# Altium schematic symbol library Schlib1.SchLib: 10 symbols
Pins are listed as number, name and electrical type; pins without a type are passive.

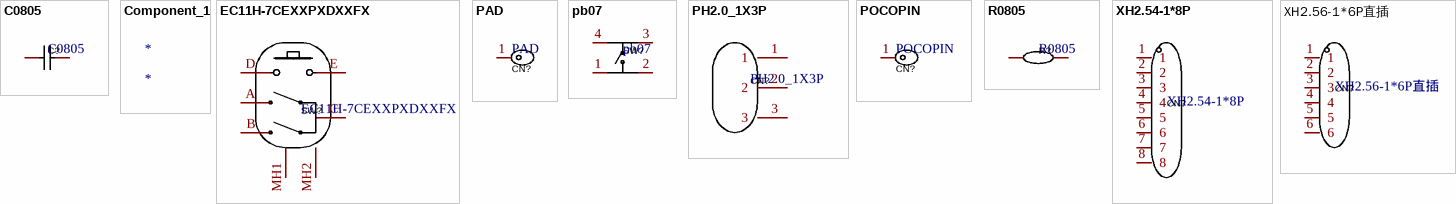
[diagram p0: symbols C0805 to XH2.56-1*6P直插]

## C0805
designator C?
Manufacturer: SAMSUNG(三星); Name: 10uF; Symbol: CL21A106KAYNNNE; Device: CL21A106KAYNNNE_C15850; Add into BOM: yes; Value: 10uF; Tolerance: ±10%; Voltage Rated: 25V; Temperature Coefficient: X5R; LCSC Part Name: 10uF ±10% 25V; Supplier Part: C15850; Manufacturer Part: CL21A106KAYNNNE; Supplier Footprint: 0805; JLCPCB Part Class: Basic Part; Datasheet: https://atta.szlcsc.com/upload/public/pdf/source/20160103/1457707679302.pdf; Supplier: LCSC; Convert to PCB: yes
3D model C0805_L2.0-W1.3-H1.3
footprint C0805
pins: 1, 2

## Component_1
designator *

## EC11H-7CEXXPXDXXFX
designator SW?
EC11H-7CEXXPXDXXFX//宏彦科技; Manufacturer: ALPSALPINE(阿尔卑斯阿尔派); Name: EC11K1524406; Add into BOM: yes; Symbol: EC11K1524406; Device: EC11K1524406; LCSC Part Name: 编码器; Supplier Part: C398934; Manufacturer Part: EC11K1524406; Supplier Footprint: 插件; JLCPCB Part Class: Extended Part; Datasheet: https://atta.szlcsc.com/upload/public/pdf/source/20190620/C398934_DDD5BF6D843226194F24C74B1929B82F.pdf; Supplier: LCSC; Convert to PCB: yes
3D model SW-TH_EC11K1524406-L11.7-W12.0-H24.5-P2.5-LS13.1
footprint 旋转编码器-有焊盘修改SW-TH_EC11K1524406
pins: A, B, C, D, E, MH1, MH2

## PAD
designator CN?
Manufacturer: YIYUAN(怡远); Name: YTC1P-3015-01; Add into BOM: yes; Overall Length/Height: 4.5mm; Rated Current: 2.5A; Rated Voltage: 12V; Symbol: YTC1P-3015-01; Device: YTC1P-3015-01; LCSC Part Name: POGO PIN弹簧顶针 贴片连接器; Supplier Part: C5221293; Manufacturer Part: YTC1P-3015-01; Supplier Footprint: -; JLCPCB Part Class: Extended Part; Datasheet: https://atta.szlcsc.com/upload/public/pdf/source/20221031/BD070516233C1C93A35D01CFB419D0D5.pdf; Supplier: LCSC; Convert to PCB: yes; Type: 弹簧顶针(POGO PIN); Number of Pins: 单PIN位; Contact Material: 黄铜; Contact Plating: 金
3D model CONN-SMD_YTC1P-3015-01
footprint PAD
pins: 1

## pb07
designator SW?
pb07无声轻触按键//东莞市荣硕电子; Manufacturer: Yuandi(元迪); Name: TS-1095PD-A9B3-D2; Add into BOM: yes; Symbol: TS-1095PD-A9B3-D2; Device: TS-1095PD-A9B3-D2; LCSC Part Name: 6*6*8.0四脚插件正按黑柄DIP按键250gf; Supplier Part: C2834903; Manufacturer Part: TS-1095PD-A9B3-D2; Supplier Footprint: 插件,6x6x8mm; JLCPCB Part Class: Extended Part; Datasheet: https://atta.szlcsc.com/upload/public/pdf/source/20210520/C2834872_7B734042F4AFC186C436C08E153ADB00.pdf; Supplier: LCSC; Convert to PCB: yes
3D model KEY-TH_4P-L6.0-W6.0-H10.0-LS6.5-P3.9
footprint KEY-pb07-5.08*5.08
pins: 1, 2, 3, 4

## PH2.0_1X3P
designator CN?
Manufacturer: JST; Name: B3B-PH-K-S(LF)(SN); Add into BOM: yes; Reference Series: PH; Pitch: 2mm; Pins Structure: 1x3P; Number of PINs Per Row: 3; Symbol: B3B-PH-K-S(LF)(SN); Device: B3B-PH-K-S(LF)(SN); LCSC Part Name: PH 2mm 1x3P; Supplier Part: C131339; Manufacturer Part: B3B-PH-K-S(LF)(SN); Supplier Footprint: 插件,P=2mm; JLCPCB Part Class: Extended Part; Datasheet: https://atta.szlcsc.com/upload/public/pdf/source/20171026/C131342_15089839687311058815.pdf; Supplier: LCSC; Convert to PCB: yes; Number of Rows: 1; Row Spacing: -; Mounting Style: -; Contact Material: 黄铜
3D model CONN-TH_B3B-PH-K-S
footprint CONN-TH_B3B-PH-K-S
pins: 1, 2, 3

## POCOPIN
designator CN?
Manufacturer: YIYUAN(怡远); Name: YTC1P-3015-01; Add into BOM: yes; Overall Length/Height: 4.5mm; Rated Current: 2.5A; Rated Voltage: 12V; Symbol: YTC1P-3015-01; Device: YTC1P-3015-01; LCSC Part Name: POGO PIN弹簧顶针 贴片连接器; Supplier Part: C5221293; Manufacturer Part: YTC1P-3015-01; Supplier Footprint: -; JLCPCB Part Class: Extended Part; Datasheet: https://atta.szlcsc.com/upload/public/pdf/source/20221031/BD070516233C1C93A35D01CFB419D0D5.pdf; Supplier: LCSC; Convert to PCB: yes; Type: 弹簧顶针(POGO PIN); Number of Pins: 单PIN位; Contact Material: 黄铜; Contact Plating: 金
3D model CONN-SMD_YTC1P-3015-01
footprint pocopin焊盘
pins: 1

## R0805
designator R?
Manufacturer: UNI-ROYAL(厚声); Name: 10kΩ; Symbol: 0805W8F1002T5E; Device: 0805W8F1002T5E_C17414; Add into BOM: yes; Tolerance: ±1%; Temperature Coefficient: ±100ppm/℃; Value: 10kΩ; Power(Watts): 1/8W; Overload Voltage (Max): 150V; LCSC Part Name: 10KΩ ±1%; Supplier Part: C17414; Manufacturer Part: 0805W8F1002T5E; Supplier Footprint: 0805; JLCPCB Part Class: Basic Part; Datasheet: https://atta.szlcsc.com/upload/public/pdf/source/20170920/C17414_1505887067106979773.pdf; Supplier: LCSC; Convert to PCB: yes; Operating Temperature Range: -55℃~+155℃
3D model R0805_L2.0-W1.3-H0.6
footprint R0805
pins: 1, 2

## XH2.54-1*8P
designator CN?
XH2.54-1*8P//直插//C5341207; Manufacturer: HCTL(华灿天禄); Name: HC-XH-8A-G; Add into BOM: yes; Reference Series: XH; Pitch: 2.54mm; Pins Structure: 1x8P; Number of PINs Per Row: 8; Gender: 公型插针; Current Rating (Max): 3A; Symbol: HC-XH-8A-G; Device: HC-XH-8A-G; LCSC Part Name: 2.5mm 1x8P 直插; Supplier Part: C5341207; Manufacturer Part: HC-XH-8A-G; Supplier Footprint: 直插,P=2.5mm; JLCPCB Part Class: Extended Part; Datasheet: https://atta.szlcsc.com/upload/public/pdf/source/20230105/4FFD2EFD3DA44AA828171A44400F3EDE.pdf; Supplier: LCSC; Convert to PCB: yes; Number of Rows: 1; Row Spacing: 2.54mm; Mounting Style: 直插; Operating Temperature Range: -25℃~+85℃
3D model CONN-TH_8P-P2.50_HC-XH-8A-G
footprint XH2.54-1*8P-CONN-TH_8P-P2.50_HC-XH-8A-G
pins: 1, 2, 3, 4, 5, 6, 7, 8

## XH2.56-1*6P直插
designator CN?
Manufacturer: HCTL(华灿天禄); Name: HC-XH-6AW-G; Add into BOM: yes; Reference Series: XH; Pitch: 2.54mm; Pins Structure: 1x6P; Number of PINs Per Row: 6; Gender: 公型插针; Current Rating (Max): 3A; Symbol: HC-XH-6AW-G; Device: HC-XH-6AW-G; LCSC Part Name: XH 2.54mm 1x6P 弯插; Supplier Part: C5341212; Manufacturer Part: HC-XH-6AW-G; Supplier Footprint: 弯插,P=2.5mm; Datasheet: https://atta.szlcsc.com/upload/public/pdf/source/20230105/4FFD2EFD3DA44AA828171A44400F3EDE.pdf; Supplier: LCSC; Convert to PCB: yes; Number of Rows: 1; Row Spacing: 2.54mm; Mounting Style: 弯插; Operating Temperature Range: -25℃~+85℃
3D model CONN-TH_6P-P2.50_HC-XH-6AW-G
footprint H2.54-1*6P-直插CONN-TH_6P-P2.50_HC-XH-6A-G
pins: 1, 2, 3, 4, 5, 6